# EAGLE library part H11L1(3DMODEL) (library OptoIsolator)
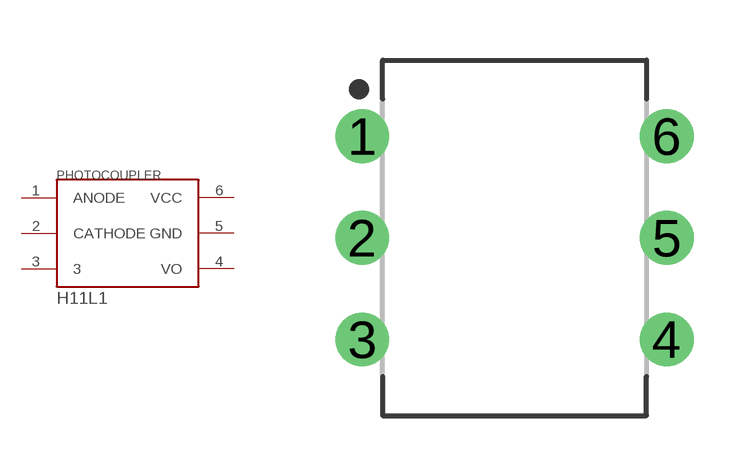
[diagram p1: symbol with the pads of DIP762W53P254L851H508Q6B; footprint DIP762W53P254L851H508Q6B]

Designator prefix -

## H11L1(3DMODEL)  [DIP762W53P254L851H508Q6B]
1  ANODE
2  CATHODE
3  3
4  VO
5  GND
6  VCC

## Footprint DIP762W53P254L851H508Q6B (pad centres in mm)
6-DIP, 2.54 mm (0.10 in) pitch, 7.62 mm (0.30 in) span, 8.51 X 6.6 X 5.08 mm body 6-pin DIP package with 2.54 mm (0.10 in) pitch, 7.62 mm (0.30 in) span with body size 8.51 X 6.6 X 5.08 mm
drill 0.743 pad 1.343: 1 -3.81,2.54; 2 -3.81,0; 3 -3.81,-2.54; 4 3.81,-2.54; 5 3.81,0; 6 3.81,2.54